# Altium footprint library BQ29700.PcbLib: 2 footprints
Each footprint in its own frame and in the unit in brackets; x right, y up, seen from the top. Pads: shape width x height; smd on the part's side, far side on the other; paste and mask are expansions set on the pad; w line width, h text height; cw(c..) or ccw(c..) is an arc to the next point about the centre after c.
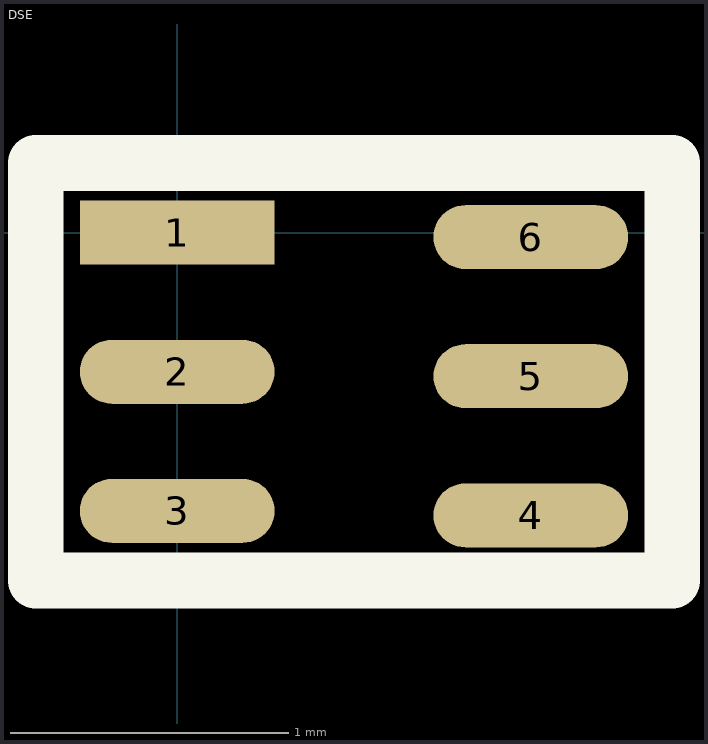
[diagram p0: the footprints below, top view; thin cyan lines are the x and y axes]

## DSE [mm]
pads (6):
  rect 0.7x0.23 smd: 1(0,0)
  oval 0.7x0.23 smd: 2(0,-0.5) 3(0,-1) 4(1.27,-1.016) 5(1.27,-0.516) 6(1.27,-0.016)
Top Overlay:
  lines w0.2: -0.508,-1.25 1.778,-1.25 1.778,0.25 0.889,0.25 -0.508,0.25 -0.508,-1.25

## PCBComponent_1 [mm]